# Altium schematic symbol library SCH - POWER - LINEAR VREG - TI UCC2837_D_8.SchLib: 1 symbol
Pins are listed as number, name and electrical type; pins without a type are passive.

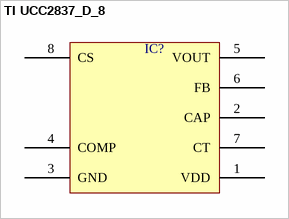
[diagram p0: symbol TI UCC2837_D_8]

## TI UCC2837_D_8
designator IC?  (value not drawn)
pins: 1 VDD, 2 CAP, 3 GND, 4 COMP, 5 VOUT, 6 FB, 7 CT, 8 CS